# EAGLE library part 74LVC14A (library KwanSystems)
Hex inverting Schmitt trigger
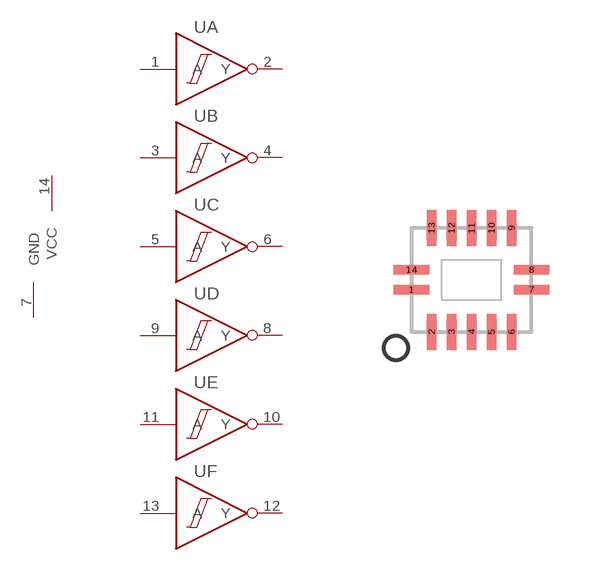
[diagram p33: symbol with the pads of DHVQFN14; footprint DHVQFN14]

Designator prefix -; gates A=SCHMITT_NOT B=SCHMITT_NOT C=SCHMITT_NOT D=SCHMITT_NOT E=SCHMITT_NOT F=SCHMITT_NOT G$1=PWR

## 74LVC14A  [DHVQFN14]
1  A:A  in
2  A:Y  out
3  B:A  in
4  B:Y  out
5  C:A  in
6  C:Y  out
7  G$1:GND
8  D:Y  out
9  D:A  in
10  E:Y  out
11  E:A  in
12  F:Y  out
13  F:A  in
14  G$1:VCC

## Footprint DHVQFN14 (pad centres in mm)
smd 0.9 x 0.24: 1 -1.5,-0.25; 7 1.5,-0.25; 8 1.5,0.25; 14 -1.5,0.25
smd 0.24 x 0.9: 2 -1,-1.3; 3 -0.5,-1.3; 4 0,-1.3; 5 0.5,-1.3; 6 1,-1.3; 9 1,1.3; 10 0.5,1.3; 11 0,1.3; 12 -0.5,1.3; 13 -1,1.3